# Altium footprint library MOLEX_5000751517.PcbLib: 1 footprints
Each footprint in its own frame and in the unit in brackets; x right, y up, seen from the top. Pads: shape width x height; smd on the part's side, far side on the other; paste and mask are expansions set on the pad; w line width, h text height; cw(c..) or ccw(c..) is an arc to the next point about the centre after c.
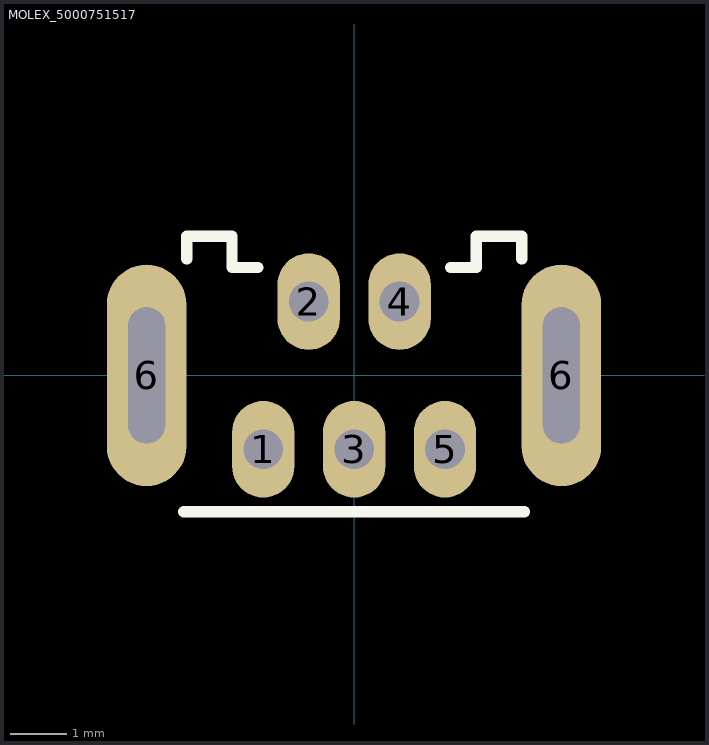
[diagram p0: the footprint, top view; thin cyan lines are the x and y axes]

## MOLEX_5000751517 [mm]
pads (7):
  oval 1.1x1.7 hole 0.7: 1(-1.6,-1.3) 2(-0.8,1.3) 3(0,-1.3) 4(0.8,1.3) 5(1.6,-1.3)
  oval 1.4x3.9 hole 0.65 slot 2.4 at 90 deg: 6(-3.655,0) 6(3.65,0)
Top Overlay:
  lines w0.2: -3,-2.4 3,-2.4 ; -2.95,2.05 -2.95,2.45 -2.15,2.45 -2.15,1.9 -1.7,1.9 ; 1.7,1.9 2.15,1.9 2.15,2.45 2.95,2.45 2.95,2.05
3D body "5000751517.stp": height 7.7, standoff -2.1, extent -3.85,-2.3 3.85,2.4